# Altium schematic symbol library SCH - DRIVER - LED - TI TPS61093DSK.SchLib: 1 symbol
Pins are listed as number, name and electrical type; pins without a type are passive.

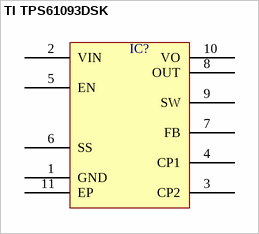
[diagram p0: symbol TI TPS61093DSK]

## TI TPS61093DSK
designator IC?  (value not drawn)
pins: 1 GND, 2 VIN, 3 CP2, 4 CP1, 5 EN, 6 SS, 7 FB, 8 OUT, 9 SW, 10 VO, 11 EP